# EAGLE library part SN65HVD12 (library Traficon)
3.3V RS485 transceiver
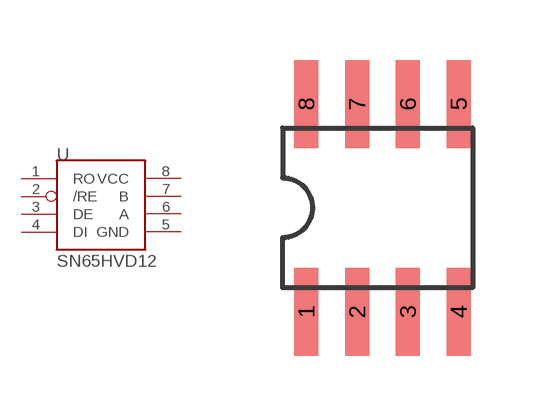
[diagram p35: symbol with the pads of SOIC8; footprint SOIC8]

Designator prefix U

## SN65HVD12  [SOIC8]
1  RO  out
2  /RE  in
3  DE  in
4  DI  in
5  GND  pas
6  A
7  B
8  VCC  pas

## Footprint SOIC8 (pad centres in mm)
Small Outline IC
smd 0.6 x 2.2: 1 -1.905,-2.6; 2 -0.635,-2.6; 3 0.635,-2.6; 4 1.905,-2.6; 5 1.905,2.6; 6 0.635,2.6; 7 -0.635,2.6; 8 -1.905,2.6